# Altium footprint library Battery Holder.PcbLib: 5 footprints
Each footprint in its own frame and in the unit in brackets; x right, y up, seen from the top. Pads: shape width x height; smd on the part's side, far side on the other; paste and mask are expansions set on the pad; w line width, h text height; cw(c..) or ccw(c..) is an arc to the next point about the centre after c.
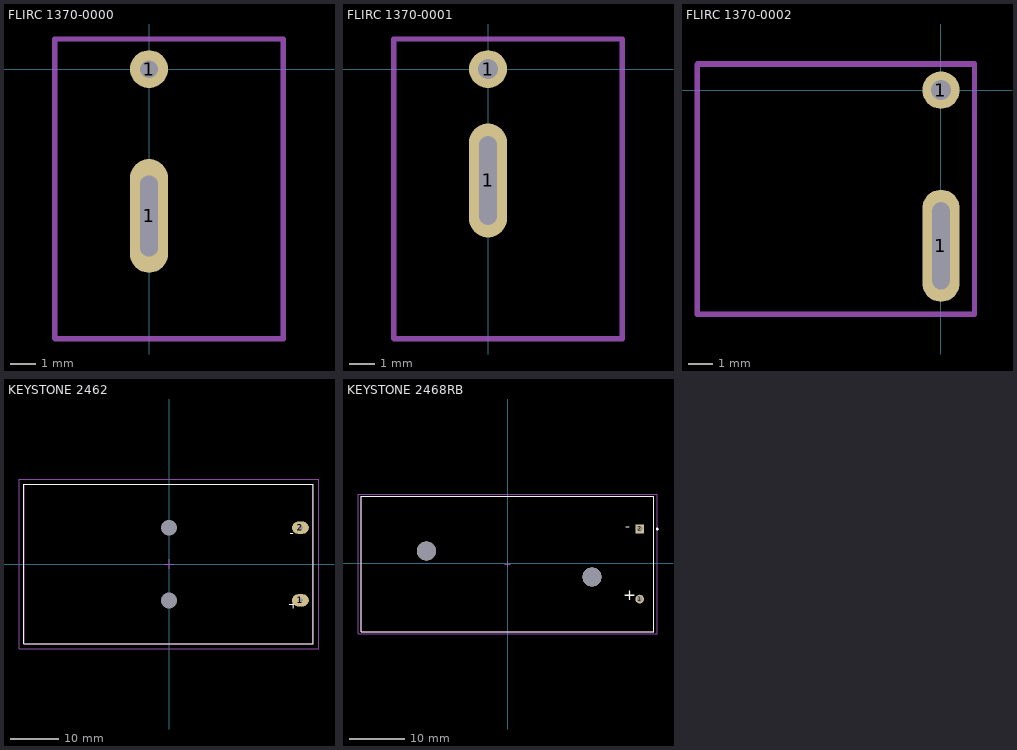
[diagram p0: the footprints below, top view; thin cyan lines are the x and y axes]

## FLIRC 1370-0000 [mm] "Battery Minus Side"
height 16
pads (2):
  oval 1.5x4.5 hole 0.7 slot 3.2 at 90 deg: 1(0,-5.8)
  round 1.5 hole 0.7: 1(0,0)
Mechanical 1:
  lines w0.2: -3.738,-10.65 5.299,-10.65 5.299,1.187 -3.738,1.187 -3.738,-10.65
Mechanical 15:
  lines w0.2: -3.722,-10.662 -3.722,1.19 5.317,1.19 5.317,-10.662 -3.722,-10.662
3D body "FLIRC 1370-0000.step": height 10.65, standoff -2.5, extent -3.562,-9.836 5.44,0.361

## FLIRC 1370-0001 [mm] "Battery Minus Side"
height 16
pads (2):
  oval 1.5x4.5 hole 0.7 slot 3.5 at 90 deg: 1(0,-4.4)
  round 1.5 hole 0.8: 1(0,0)
Mechanical 1:
  lines w0.2: -3.738,-10.65 -3.738,1.187 5.299,1.187 5.299,-10.65 -3.738,-10.65
Mechanical 15:
  lines w0.2: -3.722,-10.662 5.317,-10.662 5.317,1.19 -3.722,1.19 -3.722,-10.662
3D body "FLIRC 1370-0001.step": height 10.37, standoff -2.5, extent -5.19,-9.836 3.262,0.361

## FLIRC 1370-0002 [mm] "Battery Minus Side"
height 16
pads (2):
  oval 1.5x4.5 hole 0.7 slot 3.5 at 90 deg: 1(0,-6.25)
  round 1.5 hole 0.8: 1(0,0)
Mechanical 1:
  lines w0.2: -9.782,-8.983 -9.782,1.064 1.344,1.064 1.344,-8.983 -9.782,-8.983
Mechanical 15:
  lines w0.2: -9.801,-9.002 1.338,-9.002 1.338,1.039 -9.801,1.039 -9.801,-9.002
3D body "FLIRC 1370-0001.STEP": height 10.47, standoff -2.5, extent -9.766,-7.949 0.334,0.69

## KEYSTONE 2462 [mm]
height 16
pads (4):
  oval 3.5x2.5 hole 1.02 unplated: 1(27.165,-7.495) 2(27.165,7.495)
  rect 0x0 hole 3.3 unplated: M(-0.015,-7.495) M(-0.015,7.495)
Top Overlay:
  lines w0.2: -30,-16.5 29.8,-16.5 29.8,16.5 -30,16.5 -30,-16.5
  text "-" at 25,5 h3
  text "+" at 24.5,-10 h3.5
Mechanical 1:
  lines w0.2: -29.959,-16.459 -29.959,16.459 29.755,16.459 29.755,-16.459 -29.959,-16.459
Mechanical 15:
  lines w0.2: -1,0 1,0 ; 0,-1 0,1 ; -31,-17.5 31,-17.5 31,17.5 -31,17.5 -31,-17.5
3D body "Keystone 2462 Twin AA.STEP": height 16, standoff -11.99, extent -29.959,-16.459 29.755,16.459

## KEYSTONE 2468RB [mm]
height 16
pads (4):
  round 1.57 hole 1.02 paste-1000 mask+0: 1(23.859,-6.445)
  rect 1.57x1.57 hole 1.02 paste-1000 mask+0: 2(23.859,6.255)
  round 3.45 hole 3.45 unplated paste-1000 mask+0: ""(-14.751,2.255) ""(15.219,-2.445)
Top Overlay:
  circle w0.25: c27.049,6.255 r0.125
  lines w0.2: -26.531,-12.39 26.449,-12.39 26.449,12.2 -26.531,12.2 -26.531,-12.39
  text "-" at 21.2,5.3 h3
  text "+" at 20.9,-7.4 h3.5
Mechanical 10:
  lines w0.2: -27.141,-12.74 27.059,-12.74 27.059,12.55 -27.141,12.55 -27.141,-12.74
Mechanical 12:
  lines w0.15: -26.531,-12.39 26.449,-12.39 26.449,12.2 -26.531,12.2 -26.531,-12.39
Mechanical 15:
  lines w0.1: -0.541,-0.095 0.459,-0.095 ; -0.041,-0.595 -0.041,0.405
  lines w0.2: -27.141,-12.74 27.059,-12.74 27.059,12.55 -27.141,12.55 -27.141,-12.74
3D body "Keystone 2468RB Twin AAA.STEP": height 13.43, standoff -12.49, extent -26.304,-12.38 26.681,12.207